# Altium schematic symbol library BDX34CG.SchLib: 1 symbol
Pins are listed as number, name and electrical type; pins without a type are passive.

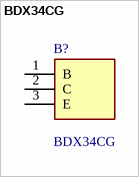
[diagram p0: symbol BDX34CG]

## BDX34CG
designator B?
ON Semi BDX34CG PNP Darlington Transistor, 10 A 100 V HFE:750, 3-Pin TO-220AB; Manufacturer_Name: onsemi; Geometry.Height: 4.82mm; Manufacturer_Part_Number: BDX34CG; Mouser Part Number: 863-BDX34CG; Mouser Price/Stock: https://www.mouser.co.uk/ProductDetail/onsemi/BDX34CG?qs=vNc2DXHODiJTwryTVcpUCw%3D%3D; Arrow Part Number: BDX34CG; Arrow Price/Stock: https://www.arrow.com/en/products/bdx34cg/on-semiconductor; Datasheet Link: https://pdf1.alldatasheet.com/datasheet-pdf/view/172155/ONSEMI/BDX34CG.html
footprint TO254P482X997X2018-3P
pins: 1 B, 2 C, 3 E